# Altium footprint library lib_epc.PcbLib: 1 footprints
Each footprint in its own frame and in the unit in brackets; x right, y up, seen from the top. Pads: shape width x height; smd on the part's side, far side on the other; paste and mask are expansions set on the pad; w line width, h text height; cw(c..) or ccw(c..) is an arc to the next point about the centre after c.
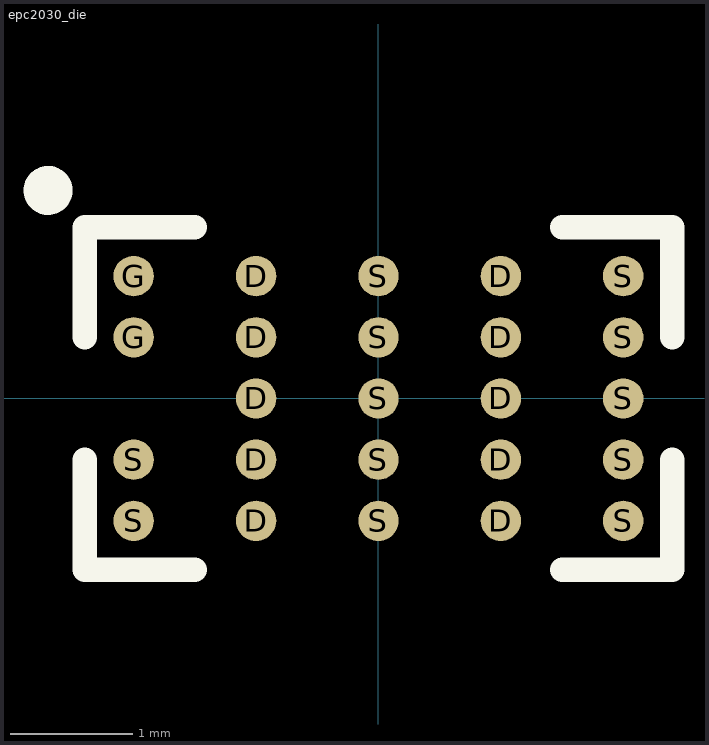
[diagram p0: the footprint, top view; thin cyan lines are the x and y axes]

## epc2030_die [mm]
pads (24):
  round 0.33 smd: D(-1,-1) D(-1,-0.5) D(-1,0) D(-1,0.5) D(-1,1) D(1,-1) D(1,-0.5) D(1,0) D(1,0.5) D(1,1) G(-2,0.5) G(-2,1) S(-2,-1) S(-2,-0.5) S(0,-1) S(0,-0.5) S(0,0) S(0,0.5) S(0,1) S(2,-1) S(2,-0.5) S(2,0) S(2,0.5) S(2,1)
Top Overlay:
  circle w0.2: c-2.7,1.7 r0.1
  lines w0.2: -2.4,-0.5 -2.4,-1.4 -1.5,-1.4 ; -2.4,0.5 -2.4,1.4 -1.5,1.4 ; 1.5,-1.4 2.4,-1.4 2.4,-0.5 ; 1.5,1.4 2.4,1.4 2.4,0.5
3D body "epc2030.STEP": height 0.76, standoff -0.03, extent -2.3,-1.3 2.3,1.3